# Altium schematic symbol library OnSemi.SchLib: 1 symbol
Pins are listed as number, name and electrical type; pins without a type are passive.

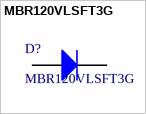
[diagram p0: symbol MBR120VLSFT3G]

## MBR120VLSFT3G
designator D?
Diode Schottky 20V 1A Surface Mount SOD-123FL
pins: 1 A, 2 K